# Altium footprint library Altuim_PCB_Lib.PcbLib: 52 footprints (part 1 of 4)
Each footprint in its own frame and in the unit in brackets; x right, y up, seen from the top. Pads: shape width x height; smd on the part's side, far side on the other; paste and mask are expansions set on the pad; w line width, h text height; cw(c..) or ccw(c..) is an arc to the next point about the centre after c.
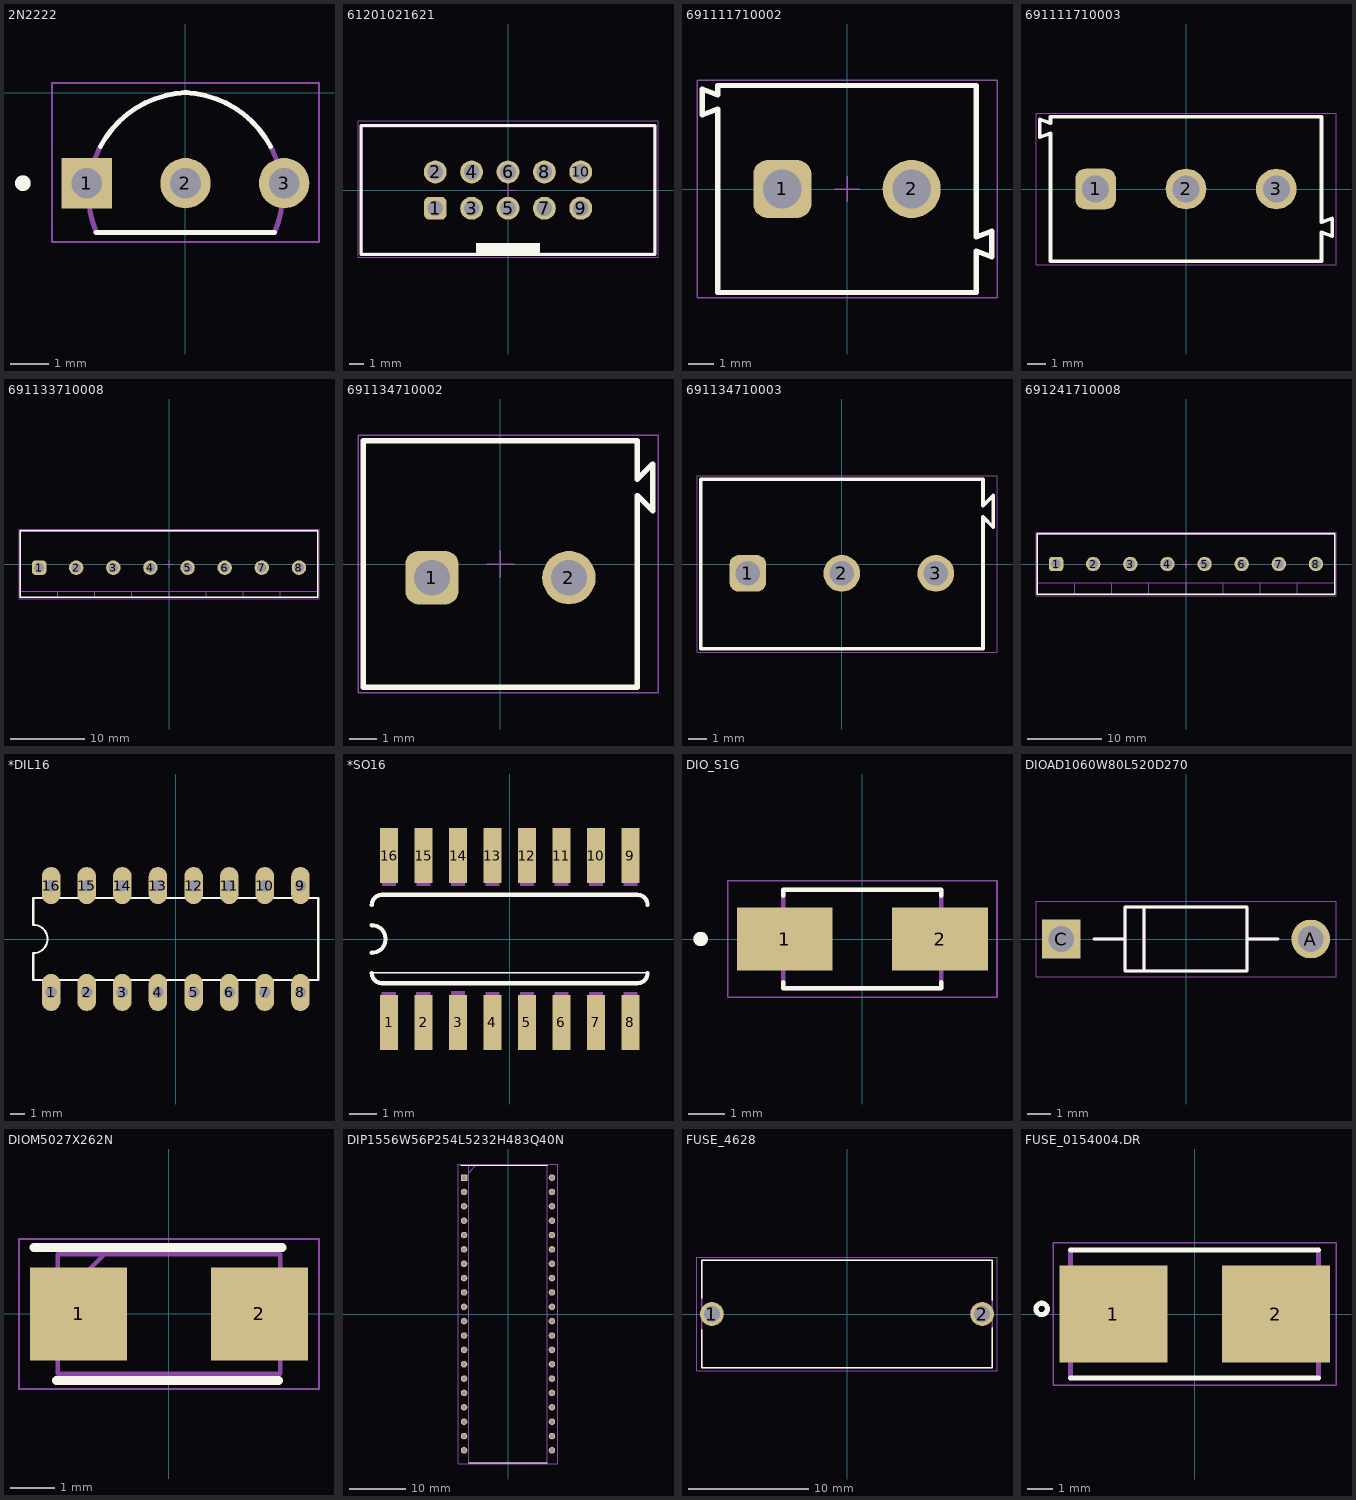
[diagram p0: the footprints below, top view; thin cyan lines are the x and y axes]

## 2N2222 [mm]
height 7.5
pads (3):
  rect 1.298x1.298 / inner round 1.298 / far side rect 1.298x1.298 hole 0.79: 1(-2.54,-2.33)
  round 1.298 hole 0.79: 2(0,-2.33) 3(2.54,-2.33)
Top Overlay:
  circle w0.2: c-4.189,-2.33 r0.1
  lines w0.127: -2.3,-3.6 2.3,-3.6 ; -2.19,-1.381 cw(c0.112,-2.605) 0.021,0.001 ; -0.021,0.001 cw(c-0.112,-2.605) 2.19,-1.381
Mechanical 13:
  circle w0.2: c-4.189,-2.33 r0.1
  lines w0.127: -2.307,-3.582 cw(c0.11,-2.605) 0.019,0.001 ; -2.3,-3.6 2.3,-3.6 ; -0.019,0.001 cw(c-0.11,-2.605) 2.307,-3.582
Mechanical 15:
  lines w0.05: -3.439,-3.85 3.439,-3.85 3.439,0.252 -3.439,0.252 -3.439,-3.85
3D body "step_temp.STEP": height 8.41, standoff -8.69, extent -2.686,-3.727 2.794,-0.127

## 61201021621 [mm] "10 pins, straight, gold plating"
height 9.1
pads (10):
  rrect50% 1.6x1.6 hole 1.1: 1(-5.08,-1.27)
  round 1.6 hole 1.1: 2(-5.08,1.27) 3(-2.54,-1.27) 4(-2.54,1.27) 5(0,-1.27) 6(0,1.27) 7(2.54,-1.27) 8(2.54,1.27) 9(5.08,-1.27) 10(5.08,1.27)
Top Overlay:
  rectangle: -2.25,-4.5 2.25,-3.7
  lines w0.2: -10.28,-4.5 10.28,-4.5 10.28,4.5 -10.28,4.5 -10.28,-4.5
Top Courtyard:
  lines w0.05: -0.5,0 0.5,0 ; 0,-0.5 0,0.5 ; -10.48,-4.7 10.48,-4.7 10.48,4.85 -10.48,4.85 -10.48,-4.7
Top 3D Body:
  rectangle: -2.25,-4.425 2.25,-3.7
  lines w0.1: -10.18,-4.425 10.18,-4.425 10.18,4.425 -10.18,4.425 -10.18,-4.425
Top Component Outline:
  rectangle: -2.25,-4.425 2.25,-3.7
  lines w0.1: -10.18,-4.425 -10.18,4.425 10.18,4.425 10.18,-4.425 -10.18,-4.425
3D body "61201021621.stp": height 9.13, standoff -2.98, extent -10.18,-4.425 10.18,4.75

## 691111710002 [mm] "5,00mm - modular - green - Horizontal entry with pressure clamp - 10,0mm height - 02p"
height 10
pads (2):
  rrect50% 2.25x2.25 hole 1.5: 1(-2.5,0)
  round 2.25 hole 1.5: 2(2.5,0)
Top Overlay:
  lines w0.2: -5.6,2.865 -5,3.09 -5,-4 5,-4 5,-2.4 5.6,-2.625 5.6,-1.625 5,-1.85 5,4 -5,4 -5,3.64 -5.6,3.865 -5.6,2.865
Top Courtyard:
  lines w0.05: -5.8,-4.2 -5.8,4.2 5.8,4.2 5.8,-4.2 -5.8,-4.2
Top 3D Body:
  lines w0.1: -5.6,2.865 -5,3.09 -5,-4 5,-4 5,-2.4 5.6,-2.625 5.6,-1.625 5,-1.85 5,4 -5,4 -5,3.64 -5.6,3.865 -5.6,2.865
Top Component Outline:
  lines w0.1: -5.6,2.865 -5.6,3.865 -5,3.64 -5,4 5,4 5,-1.85 5.6,-1.625 5.6,-2.625 5,-2.4 5,-4 -5,-4 -5,3.09 -5.6,2.865
Top Component Center:
  lines w0.05: -0.5,0 0.5,0 ; 0,-0.5 0,0.5
3D body "691111710002.stp": height 11.05, standoff -3.95, extent -5.6,-4 5.6,4

## 691111710003 [mm] "5,00mm - modular - green - Horizontal entry with pressure clamp - 10,0mm height - 03p"
height 10
pads (3):
  rrect50% 2.25x2.25 hole 1.5: 1(-5,0)
  round 2.25 hole 1.5: 2(0,0) 3(5,0)
Top Overlay:
  lines w0.2: -8.1,2.865 -7.5,3.09 -7.5,-4 7.5,-4 7.5,-2.4 8.1,-2.625 8.1,-1.625 7.5,-1.85 7.5,4 -7.5,4 -7.5,3.64 -8.1,3.865 -8.1,2.865
Top Courtyard:
  lines w0.05: -8.3,-4.2 -8.3,4.2 8.3,4.2 8.3,-4.2 -8.3,-4.2
Top 3D Body:
  lines w0.1: -8.1,2.865 -7.5,3.09 -7.5,-4 7.5,-4 7.5,-2.4 8.1,-2.625 8.1,-1.625 7.5,-1.85 7.5,4 -7.5,4 -7.5,3.64 -8.1,3.865 -8.1,2.865
Top Component Outline:
  lines w0.1: -8.1,2.865 -8.1,3.865 -7.5,3.64 -7.5,4 7.5,4 7.5,-1.85 8.1,-1.625 8.1,-2.625 7.5,-2.4 7.5,-4 -7.5,-4 -7.5,3.09 -8.1,2.865
Top Component Center:
  lines w0.05: -0.5,0 0.5,0 ; 0,-0.5 0,0.5
3D body "691111710003.stp": height 11.05, standoff -3.95, extent -8.1,-4 8.1,4

## 691133710008 [mm] "Serie 1337 - 5.00 mm_8 pins"
height 13
pads (8):
  rrect50% 1.95x1.95 hole 1.3: 1(-17.5,-0.5)
  round 1.95 hole 1.3: 2(-12.5,-0.5) 3(-7.5,-0.5) 4(-2.5,-0.5) 5(2.5,-0.5) 6(7.5,-0.5) 7(12.5,-0.5) 8(17.5,-0.5)
Top Overlay:
  lines w0.2: -20,-4.5 20,-4.5 20,4.5 -20,4.5 -20,-4.5
Top Courtyard:
  lines w0.05: -20.2,-4.7 20.2,-4.7 20.2,4.7 -20.2,4.7 -20.2,-4.7
Top 3D Body:
  lines w0.1: -20,-3.7 20,-3.7 ; -15,-4.5 -15,-3.7 ; -10,-4.5 -10,-3.7 ; -5,-4.5 -5,-3.7 ; 0,-4.5 0,-3.7 ; 5,-4.5 5,-3.7 ; 10,-4.5 10,-3.7 ; 15,-4.5 15,-3.7 ; -20,-4.5 20,-4.5 20,4.5 -20,4.5 -20,-4.5
Top Component Outline:
  lines w0.1: -20,-3.7 20,-3.7 ; -15,-4.5 -15,-3.7 ; -10,-4.5 -10,-3.7 ; -5,-4.5 -5,-3.7 ; 0,-4.5 0,-3.7 ; 5,-4.5 5,-3.7 ; 10,-4.5 10,-3.7 ; 15,-4.5 15,-3.7 ; -20,-4.5 -20,4.5 20,4.5 20,-4.5 -20,-4.5
Top Component Center:
  lines w0.05: -0.5,0 0.5,0 ; 0,-0.5 0,0.5
3D body "691133710008.stp": height 13.1, standoff -3.5, extent -20,-4.5 20,4.5

## 691134710002 [mm] "Serie 1347 - 5.00 mm_2 pins"
height 13
pads (2):
  rrect50% 1.95x1.95 hole 1.3: 1(-2.5,-0.5)
  round 1.95 hole 1.3: 2(2.5,-0.5)
Top Overlay:
  lines w0.2: -5,-4.5 -5,4.5 5,4.5 5,3.1 5.55,3.65 5.55,1.95 5,2.5 5,-4.5 -5,-4.5
Top Courtyard:
  lines w0.05: -5.2,-4.7 -5.2,4.7 5.75,4.7 5.75,-4.7 -5.2,-4.7
Top 3D Body:
  lines w0.1: -5,-4.5 -5,4.5 5,4.5 5,3.1 5.55,3.65 5.55,1.95 5,2.5 5,-4.5 -5,-4.5
Top Component Outline:
  lines w0.1: -5,-4.5 5,-4.5 5,2.5 5.55,1.95 5.55,3.65 5,3.1 5,4.5 -5,4.5 -5,-4.5
Top Component Center:
  lines w0.05: -0.5,0 0.5,0 ; 0,-0.5 0,0.5
3D body "691134710002.stp": height 13.1, standoff -3.9, extent -5,-4.5 5.55,4.5

## 691134710003 [mm] "Serie 1347 - 5.00 mm_3 pins"
height 13
pads (3):
  rrect50% 1.95x1.95 hole 1.3: 1(-5,-0.5)
  round 1.95 hole 1.3: 2(0,-0.5) 3(5,-0.5)
Top Overlay:
  lines w0.2: -7.5,-4.5 -7.5,4.5 7.5,4.5 7.5,3.1 8.05,3.65 8.05,1.95 7.5,2.5 7.5,-4.5 -7.5,-4.5
Top Courtyard:
  lines w0.05: -7.7,-4.7 -7.7,4.7 8.25,4.7 8.25,-4.7 -7.7,-4.7
Top 3D Body:
  lines w0.1: -7.5,-4.5 -7.5,4.5 7.5,4.5 7.5,3.1 8.05,3.65 8.05,1.95 7.5,2.5 7.5,-4.5 -7.5,-4.5
Top Component Outline:
  lines w0.1: -7.5,-4.5 7.5,-4.5 7.5,2.5 8.05,1.95 8.05,3.65 7.5,3.1 7.5,4.5 -7.5,4.5 -7.5,-4.5
Top Component Center:
  lines w0.05: -0.5,0 0.5,0 ; 0,-0.5 0,0.5
3D body "691134710003.stp": height 13.1, standoff -3.9, extent -7.5,-4.5 8.05,4.5

## 691241710008 [mm] "Serie 2417 - 5.00 mm _ 8 pins"
height 10
pads (8):
  rrect50% 1.95x1.95 hole 1.3: 1(-17.5,0)
  round 1.95 hole 1.3: 2(-12.5,0) 3(-7.5,0) 4(-2.5,0) 5(2.5,0) 6(7.5,0) 7(12.5,0) 8(17.5,0)
Top Overlay:
  lines w0.2: -20,-4.05 -20,4.05 20,4.05 20,-4.05 -20,-4.05
Top Courtyard:
  lines w0.05: -20.2,-4.25 -20.2,4.25 20.2,4.25 20.2,-4.25 -20.2,-4.25
Top Designator:
  text ".Designator" at -7.498,-0.5 h1.5
Top 3D Body:
  lines w0.1: -20,-2.55 20,-2.55 ; -15,-4.05 -15,-2.55 ; -10,-4.05 -10,-2.55 ; -5,-4.05 -5,-2.55 ; 0,-4.05 0,-2.55 ; 5,-4.05 5,-2.55 ; 10,-4.05 10,-2.55 ; 15,-4.05 15,-2.55 ; -20,-4.05 -20,4.05 20,4.05 20,-4.05 -20,-4.05
Top Component Outline:
  lines w0.1: -20,-2.55 20,-2.55 ; -15,-4.05 -15,-2.55 ; -10,-4.05 -10,-2.55 ; -5,-4.05 -5,-2.55 ; 0,-4.05 0,-2.55 ; 5,-4.05 5,-2.55 ; 10,-4.05 10,-2.55 ; 15,-4.05 15,-2.55 ; -20,-4.05 20,-4.05 20,4.05 -20,4.05 -20,-4.05
Top Component Center:
  lines w0.05: -0.5,0 0.5,0 ; 0,-0.5 0,0.5
3D body "691241710008.stp": height 10.1, standoff -3.4, extent -20,-4.05 20,4.05

## *DIL16 [mil]
pads (16):
  oval 52x104 hole 32: 1(-350,-150) 2(-250,-150) 3(-150,-150) 4(-50,-150) 5(50,-150) 6(150,-150) 7(250,-150) 8(350,-150) 9(350,150) 10(250,150) 11(150,150) 12(50,150) 13(-50,150) 14(-150,150) 15(-250,150) 16(-350,150)
Top Overlay:
  lines w6: -400,-115 -400,-40 ccw(c-400,0) -400,40 -400,115 400,115 400,-115 -400,-115
3D body "ULN2003BN.STEP": height 200, standoff -129.22, extent -380,-151.38 380,151.38

## *SO16 [mil]
pads (16):
  rect 26x80 smd: 1(-175,-121) 2(-125,-121) 3(-75,-121) 4(-25,-121) 5(25,-121) 6(75,-121) 7(125,-121) 8(175,-121) 9(175,121) 10(125,121) 11(75,121) 12(25,121) 13(-25,121) 14(-75,121) 15(-125,121) 16(-175,121)
Top Overlay:
  lines w2: -200,-49.22 200,-49.22
  lines w6: -200,-49.13 ccw(c-185,-49.13) -185,-64.13 185,-64.13 ccw(c185,-49.13) 200,-49.13 ; -200,-20 ccw(c-200,0) -200,20 ; -200,49.22 cw(c-185,49.22) -185,64.22 185,64.22 cw(c185,49.22) 200,49.22
Mechanical 13:
  region: 165.05,122 185,122 185,77.02 165.05,77.02
  region: 115.02,122 135,122 135,77.02 115.02,77.02
  region: 65.1,122 85,122 85,77.12 65.1,77.12
  region: 15.03,122 35,122 35,77.14 15.03,77.14
  region: 165.11,-77 185,-77 185,-122.08 165.11,-122.08
  region: 115.13,-77 135,-77 135,-122.14 115.13,-122.14
  region: 65.08,-77 85,-77 85,-122.16 65.08,-122.16
  region: 15.01,-77 35,-77 35,-122.06 15.01,-122.06
  region: -185.02,122 -165,122 -165,77.01 -185.02,77.01
  region: -135.05,122 -115,122 -115,77.03 -135.05,77.03
  region: -85.1,122 -65,122 -65,77.09 -85.1,77.09
  region: -35.04,-77 -15,-77 -15,-122.14 -35.04,-122.14
  region: -85.07,-76 -65,-76 -65,-121.11 -85.07,-121.11
  region: -135.18,-77 -115,-77 -115,-122.16 -135.18,-122.16
  region: -185.27,-77 -165,-77 -165,-122.18 -185.27,-122.18
  region: -35,122 -15,122 -15,77 -35,77
  region: 165.05,122 185,122 185,77.02 165.05,77.02
  region: 115.02,122 135,122 135,77.02 115.02,77.02
  region: 65.1,122 85,122 85,77.12 65.1,77.12
  region: 15.03,122 35,122 35,77.14 15.03,77.14
  region: 165.11,-77 185,-77 185,-122.08 165.11,-122.08
  region: 115.13,-77 135,-77 135,-122.14 115.13,-122.14
  region: 65.08,-77 85,-77 85,-122.16 65.08,-122.16
  region: 15.01,-77 35,-77 35,-122.06 15.01,-122.06
  region: -185.02,122 -165,122 -165,77.01 -185.02,77.01
  region: -135.05,122 -115,122 -115,77.03 -135.05,77.03
  region: -85.1,122 -65,122 -65,77.09 -85.1,77.09
  region: -35.04,-77 -15,-77 -15,-122.14 -35.04,-122.14
  region: -85.07,-76 -65,-76 -65,-121.11 -85.07,-121.11
  region: -135.18,-77 -115,-77 -115,-122.16 -135.18,-122.16
  region: -185.27,-77 -165,-77 -165,-122.18 -185.27,-122.18
  region: -35,122 -15,122 -15,77 -35,77
3D body "ULN2003BDR.STEP": height 69, standoff 0, extent -195,-118 195,118

## DIO_S1G [mm]
height 2.5
pads (2):
  rect 2.65x1.75 smd: 1(-2.15,0) 2(2.15,0)
Top Overlay:
  circle w0.2: c-4.475,0 r0.1
  lines w0.127: -2.187,-1.195 -2.187,-1.362 2.187,-1.362 2.187,-1.195 ; -2.187,1.195 -2.187,1.362 2.187,1.362 2.187,1.195
Mechanical 13:
  circle w0.2: c-4.475,0 r0.1
  lines w0.127: -2.187,-1.362 2.187,-1.362 2.187,1.362 -2.187,1.362 -2.187,-1.362
Mechanical 15:
  lines w0.05: -3.725,-1.613 3.725,-1.613 3.725,1.613 -3.725,1.613 -3.725,-1.613
3D body "step_temp.STEP": height 2.7, standoff 0, extent -2.6,-1.362 2.6,1.362

## DIOAD1060W80L520D270 [mm]
pads (2):
  round 1.65 hole 1.1: A(5.3,0)
  rect 1.65x1.65 hole 1.1: C(-5.3,0)
Top Overlay:
  lines w0.127: -3.9,0 -2.6,0 ; 3.9,0 2.6,0 ; -2.6,0 -2.6,1.35 -1.775,1.35 ; -2.6,0 -2.6,-1.35 -1.775,-1.35 ; -1.775,-1.35 2.6,-1.35 2.6,0 ; -1.775,-1.35 -1.775,1.35 ; -1.775,1.35 2.6,1.35 2.6,0
Mechanical 13:
  lines w0.127: -3.9,0 -2.6,0 ; 3.9,0 2.6,0 ; -2.6,0 -2.6,1.35 -1.775,1.35 ; -2.6,0 -2.6,-1.35 -1.775,-1.35 ; -1.775,-1.35 2.6,-1.35 2.6,0 ; -1.775,-1.35 -1.775,1.35 ; -1.775,1.35 2.6,1.35 2.6,0
Mechanical 15:
  lines w0.05: -6.375,-1.6 6.375,-1.6 6.375,1.6 -6.375,1.6 -6.375,-1.6
3D body "1N4007RL.STEP": height 2.72, standoff -21.64, extent -5.693,-1.36 5.693,1.36

## DIOM5027X262N [mm]
pads (2):
  rect 2.2x2.1 smd: 1(-2.05,0) 2(2.05,0)
Top Overlay:
  lines w0.2: -3.06,1.51 2.56,1.51 ; -2.551,-1.504 2.489,-1.504
Mechanical 15:
  lines w0.1: -2.52,0.3 -1.47,1.35 ; -2.52,-1.35 -2.52,1.35 2.52,1.35 2.52,-1.35 -2.52,-1.35
Mechanical 20:
  lines w0.05: -3.4,-1.7 -3.4,1.7 3.4,1.7 3.4,-1.7 -3.4,-1.7
3D body "1N4007_SMD.stp": height 2.62, standoff 0, extent -2.52,-1.35 2.52,1.35

## DIP1556W56P254L5232H483Q40N [mm]
pads (40):
  rect 1.159x1.159 / inner round 1.159 / far side rect 1.159x1.159 hole 0.759: 1(-7.779,24.13)
  round 1.159 hole 0.759: 2(-7.779,21.59) 3(-7.779,19.05) 4(-7.779,16.51) 5(-7.779,13.97) 6(-7.779,11.43) 7(-7.779,8.89) 8(-7.779,6.35) 9(-7.779,3.81) 10(-7.779,1.27) 11(-7.779,-1.27) 12(-7.779,-3.81) 13(-7.779,-6.35) 14(-7.779,-8.89) 15(-7.779,-11.43) 16(-7.779,-13.97) 17(-7.779,-16.51) 18(-7.779,-19.05) 19(-7.779,-21.59) 20(-7.779,-24.13) 21(7.779,-24.13) 22(7.779,-21.59) 23(7.779,-19.05) 24(7.779,-16.51) 25(7.779,-13.97) 26(7.779,-11.43) 27(7.779,-8.89) 28(7.779,-6.35) 29(7.779,-3.81) 30(7.779,-1.27) 31(7.779,1.27) 32(7.779,3.81) 33(7.779,6.35) 34(7.779,8.89) 35(7.779,11.43) 36(7.779,13.97) 37(7.779,16.51) 38(7.779,19.05) 39(7.779,21.59) 40(7.779,24.13)
Top Overlay:
  lines w0.2: -8.358,26.289 6.985,26.289 ; -6.985,-26.289 6.985,-26.289
Mechanical 15:
  lines w0.1: -6.985,25.019 -5.715,26.289 ; -6.985,-26.289 6.985,-26.289 6.985,26.289 -6.985,26.289 -6.985,-26.289
Mechanical 20:
  lines w0.05: -8.767,-26.539 8.767,-26.539 8.767,26.539 -8.767,26.539 -8.767,-26.539
3D body "ATMEGA32-16PU.stp": height 4.83, standoff -3.5, extent -7.919,-26.162 7.919,26.162

## FUSE_4628 [mm]
height 11.99
pads (2):
  round 1.98 hole 1.32: 1(-11.25,0) 2(11.25,0)
Top Overlay:
  lines w0.127: -12.105,-1.32 -12.105,-4.495 12.105,-4.495 12.105,-1.15 ; -12.105,1.32 -12.105,4.495 12.105,4.495 12.105,1.15
Mechanical 13:
  lines w0.127: -12.105,-4.495 12.105,-4.495 12.105,4.495 -12.105,4.495 -12.105,-4.495
Mechanical 15:
  lines w0.05: -12.49,-4.745 12.49,-4.745 12.49,4.745 -12.49,4.745 -12.49,-4.745
3D body "4628--3DModel-STEP-630548.STEP": height 10.91, standoff -5.04, extent -12.085,-4.533 12.121,4.459

## FUSE_0154004.DR [mm]
pads (2):
  rect 4.24x3.81 smd: 1(-3.19,0) 2(3.19,0)
Top Overlay:
  circle w0.2: c-6,0.2 r0.224
  lines w0.2: -4.863,-2.515 4.863,-2.515 ; -4.863,2.515 4.863,2.515
Mechanical 13:
  lines w0.2: -4.863,-2.515 -4.863,2.515 ; 4.863,-2.515 4.863,2.515
Mechanical 15:
  lines w0.05: -5.55,-2.8 -5.55,2.8 5.55,2.8 5.55,-2.8 -5.55,-2.8
3D body "0154004.DR--3DModel-STEP-56544.STEP": height 3.81, standoff 0, extent -4.865,-2.515 4.865,2.515